# Altium footprint library WL-SMCW_0603.PcbLib: 1 footprints
Each footprint in its own frame and in the unit in brackets; x right, y up, seen from the top. Pads: shape width x height; smd on the part's side, far side on the other; paste and mask are expansions set on the pad; w line width, h text height; cw(c..) or ccw(c..) is an arc to the next point about the centre after c.
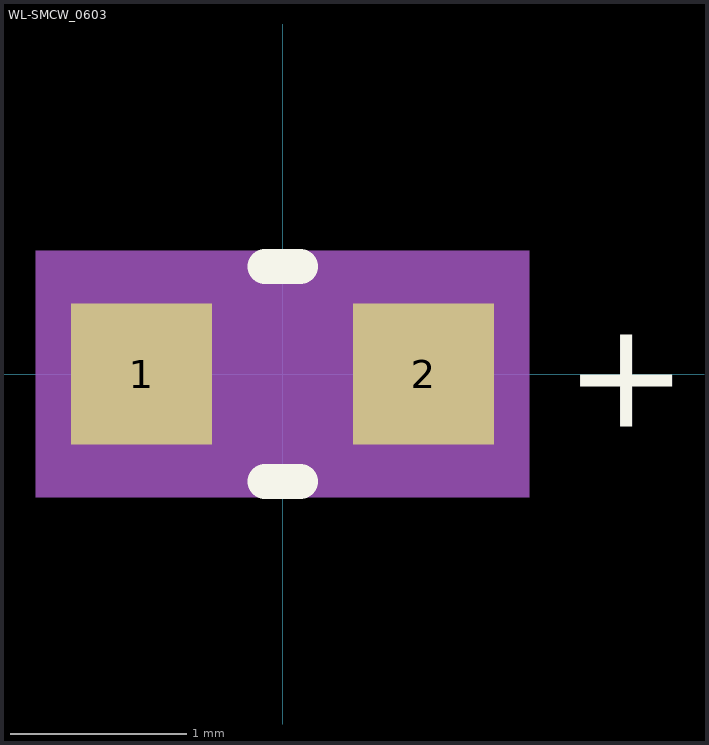
[diagram p0: the footprint, top view; thin cyan lines are the x and y axes]

## WL-SMCW_0603 [mm]
pads (2):
  rect 0.8x0.8 smd: 1(-0.8,0) 2(0.8,0)
Top Overlay:
  lines w0.2: -0.1,-0.61 0.1,-0.61 ; -0.1,0.61 0.1,0.61
  text "+" at 1.6,-0.3 h0.61
Assembly Top:
  lines w0.1: -0.8,-0.4 -0.8,0.4 0.8,0.4 0.8,-0.4 -0.8,-0.4 ; -0.13,0 0.11,-0.15 0.11,0.14 -0.13,0
  text "+" at 1.6,-0.3 h0.61
Courtyard Top:
  region: 1.4,-0.7 -1.4,-0.7 -1.4,0.7 1.4,0.7
3D body "step_temp.STEP": height 0.7, standoff 0, extent -0.8,-0.4 0.8,0.4